# Altium footprint library RF.PcbLib: 20 footprints (part 2 of 2)
Each footprint in its own frame and in the unit in brackets; x right, y up, seen from the top. Pads: shape width x height; smd on the part's side, far side on the other; paste and mask are expansions set on the pad; w line width, h text height; cw(c..) or ccw(c..) is an arc to the next point about the centre after c.
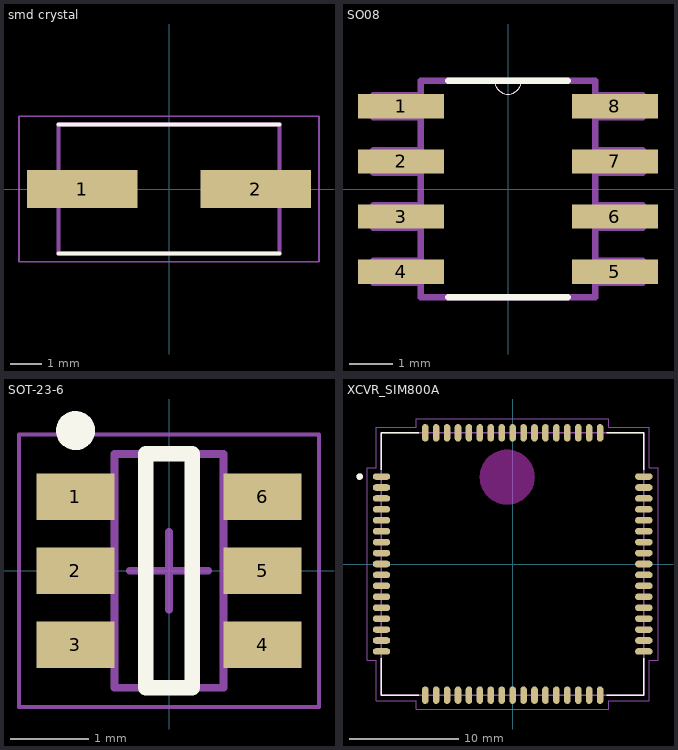
[diagram p1: the footprints below, top view; thin cyan lines are the x and y axes]

## smd crystal [mm]
height 2
pads (2):
  rect 3.5x1.2 smd: 1(-2.75,0) 2(2.75,0)
Top Overlay:
  lines w0.127: -3.5,-2.05 3.5,-2.05 ; -3.5,2.05 3.5,2.05
Mechanical 13:
  lines w0.127: -3.5,-2.05 3.5,-2.05 3.5,2.05 -3.5,2.05 -3.5,-2.05
Mechanical 15:
  lines w0.05: -4.75,-2.3 4.75,-2.3 4.75,2.3 -4.75,2.3 -4.75,-2.3
3D body "step_temp.STEP": height 1.9, standoff 0, extent -3.8,-2.05 3.8,2.05

## SO08 [mil]
pads (8):
  rect 78x22 smd: 1(-97,75) 2(-97,25) 3(-97,-25) 4(-97,-75) 5(97,-75) 6(97,-25) 7(97,25) 8(97,75)
Top Overlay:
  lines w0: -12,98 ccw(c0,98) 12,98
  lines w6: -54,-98 54,-98 ; -54,98 -12,98 12,98 54,98
Mechanical 13:
  lines w0: -12,98 ccw(c0,98) 12,98
  lines w6: -122,-85 -122,-65 -79,-65 -79,-85 -122,-85 ; -122,-35 -122,-15 -79,-15 -79,-35 -122,-35 ; -122,15 -122,35 -79,35 -79,15 -122,15 ; -122,65 -122,85 -79,85 -79,65 -122,65 ; -79,-98 79,-98 79,98 12,98 -12,98 -79,98 -79,-98 ; 79,-85 79,-65 122,-65 122,-85 79,-85 ; 79,-35 79,-15 122,-15 122,-35 79,-35 ; 79,15 79,35 122,35 122,15 79,15 ; 79,65 79,85 122,85 122,65 79,65
3D body "STM32G031J6M6.STEP": height 68.9, standoff 0, extent -113.1,-96.45 123.12,96.46

## SOT-23-6 [mm] "SOT23, 6-Leads, Body 2.90x2.45mm, Pitch 0.95mm, IPC Medium Density"
height 1.1
pads (6):
  rect 1x0.6 smd: 1(-1.2,0.95) 2(-1.2,0) 3(-1.2,-0.95) 4(1.2,-0.95) 5(1.2,0) 6(1.2,0.95)
Top Overlay:
  circle w0.25: c-1.2,1.8 r0.125
  lines w0.2: -0.3,-1.5 -0.3,1.5 0.3,1.5 0.3,-1.5 -0.3,-1.5
Mechanical 13:
  lines w0.1: -0.7,-1.5 0.7,-1.5 0.7,1.5 -0.7,1.5 -0.7,-1.5
Mechanical 15:
  lines w0.05: -1.925,-1.75 1.925,-1.75 1.925,1.75 -1.925,1.75 -1.925,-1.75
  lines w0.1: -0.5,0 0.5,0 ; 0,-0.5 0,0.5
3D body: height 1.1, standoff 0.05, extent -0.7,-1.5 0.7,1.5

## XCVR_SIM800A [mm]
pads (68):
  oval 1.6x0.6 smd: 1(-12,8) 2(-12,7) 3(-12,6) 4(-12,5) 5(-12,4) 6(-12,3) 7(-12,2) 8(-12,1) 9(-12,0) 10(-12,-1) 11(-12,-2) 12(-12,-3) 13(-12,-4) 14(-12,-5) 15(-12,-6) 16(-12,-7) 17(-12,-8) 35(12,-8) 36(12,-7) 37(12,-6) 38(12,-5) 39(12,-4) 40(12,-3) 41(12,-2) 42(12,-1) 43(12,0) 44(12,1) 45(12,2) 46(12,3) 47(12,4) 48(12,5) 49(12,6) 50(12,7) 51(12,8)
  oval 0.6x1.6 smd: 18(-8,-12) 19(-7,-12) 20(-6,-12) 21(-5,-12) 22(-4,-12) 23(-3,-12) 24(-2,-12) 25(-1,-12) 26(0,-12) 27(1,-12) 28(2,-12) 29(3,-12) 30(4,-12) 31(5,-12) 32(6,-12) 33(7,-12) 34(8,-12) 52(8,12) 53(7,12) 54(6,12) 55(5,12) 56(4,12) 57(3,12) 58(2,12) 59(1,12) 60(0,12) 61(-1,12) 62(-2,12) 63(-3,12) 64(-4,12) 65(-5,12) 66(-6,12) 67(-7,12) 68(-8,12)
Top Overlay:
  circle w0.3: c-14,8 r0.15
  lines w0.127: -12,-8.614 -12,-12 -8.614,-12 ; -12,8.614 -12,12 -8.614,12 ; 8.614,-12 12,-12 12,-8.614 ; 8.614,12 12,12 12,8.614
Keep-Out Layer:
  drawing of 2 lines, arcs and shapes, not listed
Mechanical 13:
  circle w0.3: c-14,8 r0.15
  lines w0.127: -12,-12 -12,12 12,12 12,-12 -12,-12
Mechanical 15:
  lines w0.05: -13.3,-8.8 -12.5,-8.8 -12.5,-12.5 -8.8,-12.5 -8.8,-13.3 8.8,-13.3 8.8,-12.5 12.5,-12.5 12.5,-8.8 13.3,-8.8 13.3,8.8 12.5,8.8 12.5,12.5 8.8,12.5 8.8,13.3 -8.8,13.3 -8.8,12.5 -12.5,12.5 -12.5,8.8 -13.3,8.8 -13.3,-8.8
3D body "SIM800A--3DModel-STEP-56544.STEP": height 3.2, standoff 0, extent -12,-12 12,12